# EAGLE library part CPDT6-5V4 (library BMS_Slave_v2)
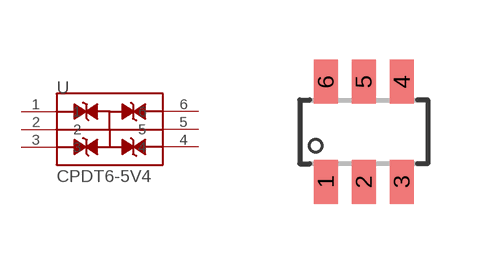
[diagram p12: symbol with the pads of SOT23-6; footprint SOT23-6]

Designator prefix -

## CPDT6-5V4  [SOT23-6]
1  1
2  2
3  3
4  4
5  5
6  6

## Footprint SOT23-6 (pad centres in mm)
smd 0.6 x 1.1: 1 -0.95,-1.25; 2 0,-1.25; 3 0.95,-1.25; 4 0.95,1.25; 5 0,1.25; 6 -0.95,1.25